# Altium footprint library CAPPM2014X120N.PcbLib: 1 footprints
Each footprint in its own frame and in the unit in brackets; x right, y up, seen from the top. Pads: shape width x height; smd on the part's side, far side on the other; paste and mask are expansions set on the pad; w line width, h text height; cw(c..) or ccw(c..) is an arc to the next point about the centre after c.
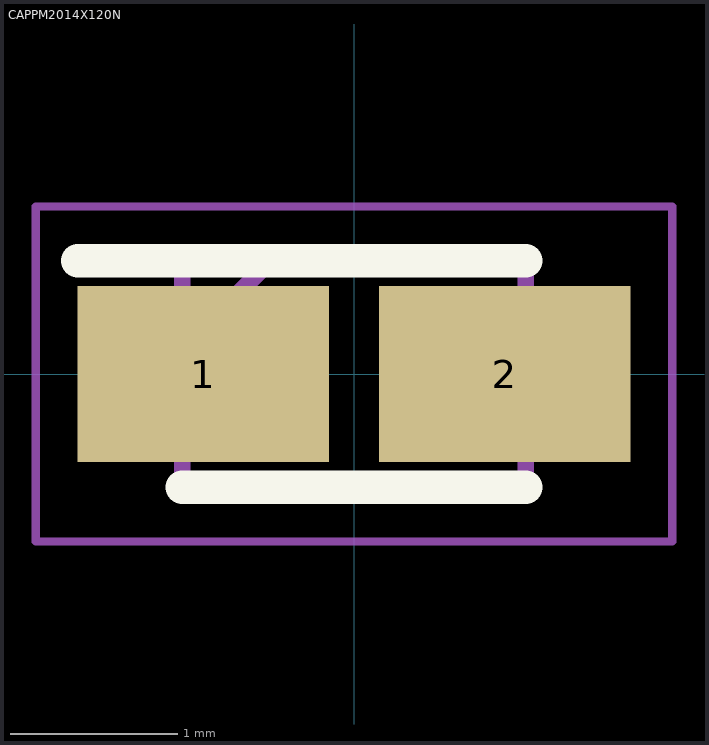
[diagram p0: the footprint, top view; thin cyan lines are the x and y axes]

## CAPPM2014X120N [mm]
pads (2):
  rect 1.5x1.05 smd: 1(-0.9,0) 2(0.9,0)
Top Overlay:
  lines w0.2: -1.65,0.675 1.025,0.675 ; -1.025,-0.675 1.025,-0.675
Mechanical 15:
  lines w0.1: -1.025,0.15 -0.5,0.675 ; -1.025,-0.675 1.025,-0.675 1.025,0.675 -1.025,0.675 -1.025,-0.675
Mechanical 20:
  lines w0.05: -1.9,-1 1.9,-1 1.9,1 -1.9,1 -1.9,-1